# Altium integrated library 2222.IntLib: 1 symbol
Pins are listed as number, name and electrical type; pins without a type are passive.

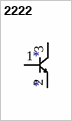
[diagram p0: symbol 2222]

## 2222
designator *
footprint 2222
pins: 1, 2, 3